# EAGLE library part MAX14588ETE (library FSAE Eletric)
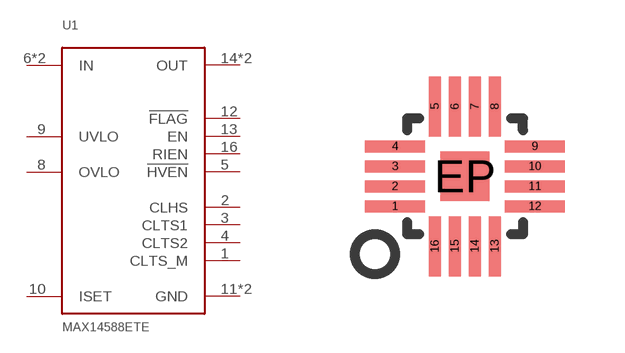
[diagram p26: symbol with the pads of TQFN-16; footprint TQFN-16]

Designator prefix U1

## MAX14588ETE  [TQFN-16]
1  CLTS_M
2  CLHS
3  CLTS1
4  CLTS2
5  !HVEN
6  IN
7  IN
8  OVLO
9  UVLO
10  ISET
11  GND
12  !FLAG
13  EN
14  OUT
15  OUT
16  RIEN
EP  GND

## Footprint TQFN-16 (pad centres in mm)
smd 1.5 x 0.3: 1 -1.75,-0.75; 2 -1.75,-0.25; 3 -1.75,0.25; 4 -1.75,0.75; 9 1.75,0.75; 10 1.75,0.25; 11 1.75,-0.25; 12 1.75,-0.75
smd 0.3 x 1.5: 5 -0.75,1.75; 6 -0.25,1.75; 7 0.25,1.75; 8 0.75,1.75; 13 0.75,-1.75; 14 0.25,-1.75; 15 -0.25,-1.75; 16 -0.75,-1.75
smd 1.23 x 1.23: EP 0,0